# Altium footprint library PLS-16R (DS-1022-1x14).PcbLib: 1 footprints
Each footprint in its own frame and in the unit in brackets; x right, y up, seen from the top. Pads: shape width x height; smd on the part's side, far side on the other; paste and mask are expansions set on the pad; w line width, h text height; cw(c..) or ccw(c..) is an arc to the next point about the centre after c.
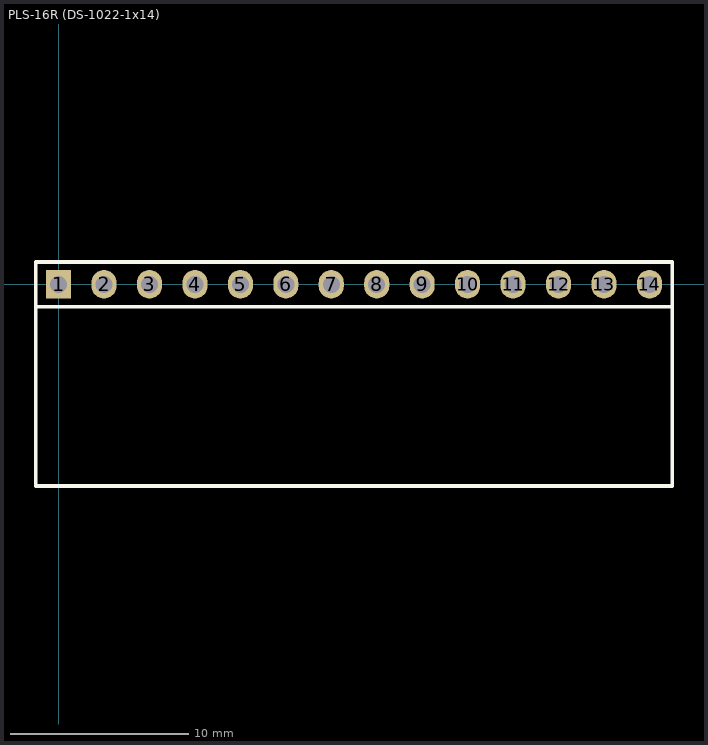
[diagram p0: the footprint, top view; thin cyan lines are the x and y axes]

## PLS-16R (DS-1022-1x14) [mm] "2.54mm PIN HEADER R/A"
pads (14):
  rect 1.4x1.6 hole 0.95: 1(0,0)
  oval 1.4x1.6 hole 0.95: 2(2.54,0) 3(5.08,0) 4(7.62,0) 5(10.16,0) 6(12.7,0) 7(15.24,0) 8(17.78,0) 9(20.32,0) 10(22.86,0) 11(25.4,0) 12(27.94,0) 13(30.48,0) 14(33.02,0)
Top Overlay:
  lines w0.2: -1.27,-1.27 -1.27,-11.27 34.28,-11.27 34.29,-11.26 ; -1.27,-1.25 34.29,-1.25 ; -1.27,-1.24 -1.27,1.25 34.29,1.25 34.29,-1.25 ; 34.29,-11.25 34.29,-1.25
3D body: height 2.5, standoff 0, extent -1.27,-11.27 34.29,1.25